# EAGLE library part BD9C401EFJ-E2 (library ruark2)
Buck Switching Regulator IC Positive Adjustable 0.8V 1 Output 4A 8-SOIC (0.154", 3.90mm Width) Exposed Pad
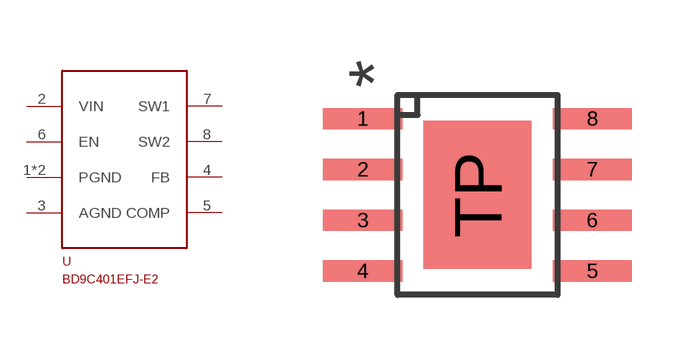
[diagram p75: symbol with the pads of SOIC8_TP; footprint SOIC8_TP]

Designator prefix U

## BD9C401EFJ-E2 (PARTNO: 846-1116-1-ND; VALUE: BD9C401EFJ-E2)  [SOIC8_TP]
1  PGND
2  VIN
3  AGND
4  FB
5  COMP
6  EN
7  SW1
8  SW2
TP  PGND

## Footprint SOIC8_TP (pad centres in mm)
smd 1.981 x 0.533: 1 -2.87,1.905; 2 -2.87,0.635; 3 -2.87,-0.635; 4 -2.87,-1.905; 5 2.87,-1.905; 6 2.87,-0.635; 7 2.87,0.635; 8 2.87,1.905
smd 2.7 x 3.7: TP 0,0